# Altium integrated library NSC RF and IF Transceiver.IntLib: 2 symbols
Pins are listed as number, name and electrical type; pins without a type are passive.

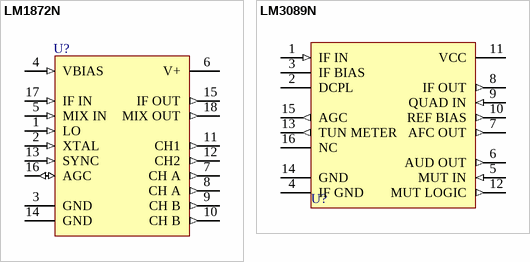
[diagram p0: symbols LM1872N to LM3089N]

## LM1872N
designator U?
Radio Control Receiver/Decoder; Published: 15-Apr-2002; LatestRevisionDate: 06-Jun-2005; LatestRevisionNote: Stylized 3D Model Added.; DatasheetVersion: 1989; PackageVersion: 1995; PackageReference: N18A; Publisher: Altium Limited; PackageDescription: DIP; 18 Leads; Row Spacing 7.62 mm; Pitch 2.54 mm; Code_JEDEC: MS-001-BC; ComponentLink1Description: Manufacturer Link; ComponentLink1URL: http://www.national.com/
footprint N18A (DIP; 18 Leads; Row Spacing 7.62 mm; Pitch 2.54 mm)
3D model N18A (DIP; 18 Leads; Row Spacing 7.62 mm; Pitch 2.54 mm)
pins: 1 LO (in), 2 XTAL (in), 3 GND (power), 4 VBIAS (in), 5 MIX IN (in), 6 V+ (power), 7 CH A (out), 8 CH A (out), 9 CH B (out), 10 CH B (out), 11 CH1 (out), 12 CH2 (out), 13 SYNC (in), 14 GND (power), 15 IF OUT (out), 16 AGC (io), 17 IF IN (in), 18 MIX OUT (out)

## LM3089N
designator U?
FM Receiver IF System; ComponentAvailability: Obsolete; Published: 15-Apr-2002; LatestRevisionDate: 06-Jun-2005; LatestRevisionNote: Stylized 3D Model Added.; DatasheetVersion: Sep-1992; PackageVersion: 2000; PackageReference: N16E; Publisher: Altium Limited; PackageDescription: DIP; 16 Leads; Row Spacing 7.62 mm; Pitch 2.54 mm; ComponentLink1Description: Manufacturer Link; ComponentLink1URL: http://www.national.com/; ComponentLink2Description: Discontinuation Notice; ComponentLink2URL: http://www.national.com/obs/obsolescence.txt; ComponentLink3Description: URL Link1; ComponentLink3URL: http://www.national.com/pf/LM/LM3089.html
footprint N16E (DIP; 16 Leads; Row Spacing 7.62 mm; Pitch 2.54 mm)
3D model N16E (DIP; 16 Leads; Row Spacing 7.62 mm; Pitch 2.54 mm)
pins: 1 IF IN (in), 2 DCPL, 3 IF BIAS, 4 IF GND (power), 5 MUT IN (in), 6 AUD OUT (out), 7 AFC OUT (out), 8 IF OUT (out), 9 QUAD IN (in), 10 REF BIAS (out), 11 VCC (power), 12 MUT LOGIC (out), 13 TUN METER (out), 14 GND (power), 15 AGC (out), 16 NC